# Altium schematic symbol library ArduinoFOC.SchLib: 10 symbols
Pins are listed as number, name and electrical type; pins without a type are passive.

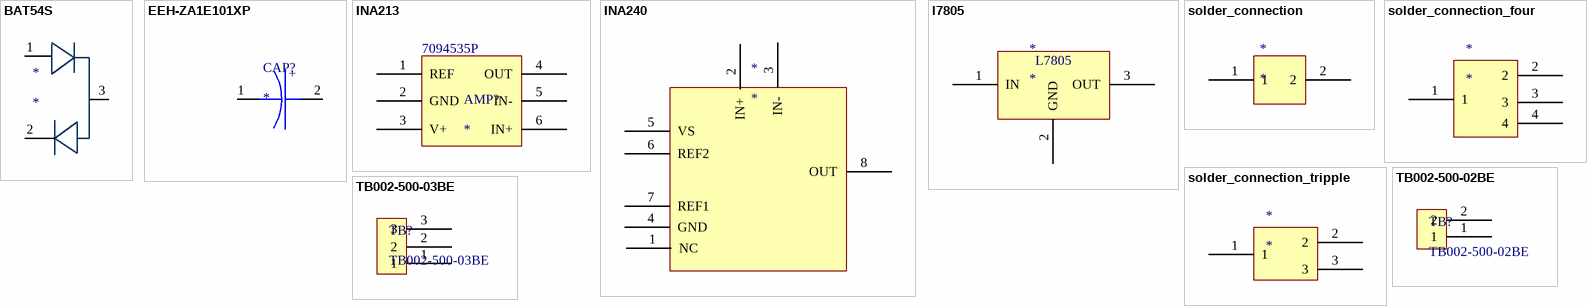
[diagram p0: symbols BAT54S to TB002-500-03BE]

## BAT54S
designator *
Supplier 1: Mouser; Supplier Part Number 1: 512-BAT54S
footprint BAT54s
pins: 1, 2, 3

## EEH-ZA1E101XP
designator CAP?
Supplier 1: Mouser; Supplier Part Number 1: 667-EEH-ZA1E101XP
footprint EEH-ZA1E101XP
pins: 1, 2 +

## INA213
designator AMP?  Supplier Part Number 1: 7094535P
INA213 current sense amp; Supplier 1: RSComponents
footprint INA213
pins: 1 REF, 2 GND, 3 V+, 4 OUT, 5 IN-, 6 IN+

## INA240
designator *
Supplier 1: Mouser; Supplier Part Number 1: 595-INA240A2PWR
footprint INA240
pins: 1 NC, 2 IN+, 3 IN-, 4 GND, 5 VS, 6 REF2, 7 REF1, 8 OUT

## l7805
designator *
footprint L7805 (l7805)
pins: 1 IN, 2 GND, 3 OUT
text: L7805

## solder_connection
designator *
footprint solder_connection
pins: 1, 2

## solder_connection_four
designator *
footprint solder_connection_four
pins: 1, 2, 3, 4

## solder_connection_tripple
designator *
footprint solder_connection_tripple
pins: 1, 2, 3

## TB002-500-02BE
designator TB?
Supplier 1: Mouser; Supplier Part Number 1: 490-TB002-500-02BE
footprint TB002-500-02BE
pins: 1, 2

## TB002-500-03BE
designator TB?
Supplier 1: Mouser; Supplier Part Number 1: 490-TB002-500-03BE
footprint TB002-500-03BE
pins: 1, 2, 3